# EAGLE library part TC/1 (library 000001)
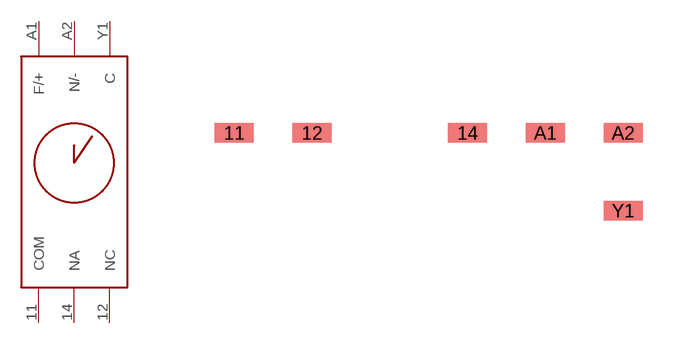
[diagram p63: symbol with the pads of TC/1; footprint TC/1]

Designator prefix -

## TC/1  [TC/1]
11  COM
12  NC
14  NA
A1  F/+
A2  N/-
Y1  C

## Footprint TC/1 (pad centres in mm)
smd 1.27 x 0.635: 11 8.89,2.54; 12 11.43,2.54; 14 16.51,2.54; A1 19.05,2.54; A2 21.59,2.54; Y1 21.59,0